# Altium schematic symbol library TMP1503PD8L.Schlib: 1 symbol
Pins are listed as number, name and electrical type; pins without a type are passive.

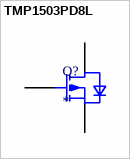
[diagram p0: symbol TMP1503PD8L]

## TMP1503PD8L
designator Q?
pins: 1 S@3, 2 S@2, 3 S@1, 4 GATE, 5 D